# Altium footprint library B39242B7520P810.PcbLib: 1 footprints
Each footprint in its own frame and in the unit in brackets; x right, y up, seen from the top. Pads: shape width x height; smd on the part's side, far side on the other; paste and mask are expansions set on the pad; w line width, h text height; cw(c..) or ccw(c..) is an arc to the next point about the centre after c.
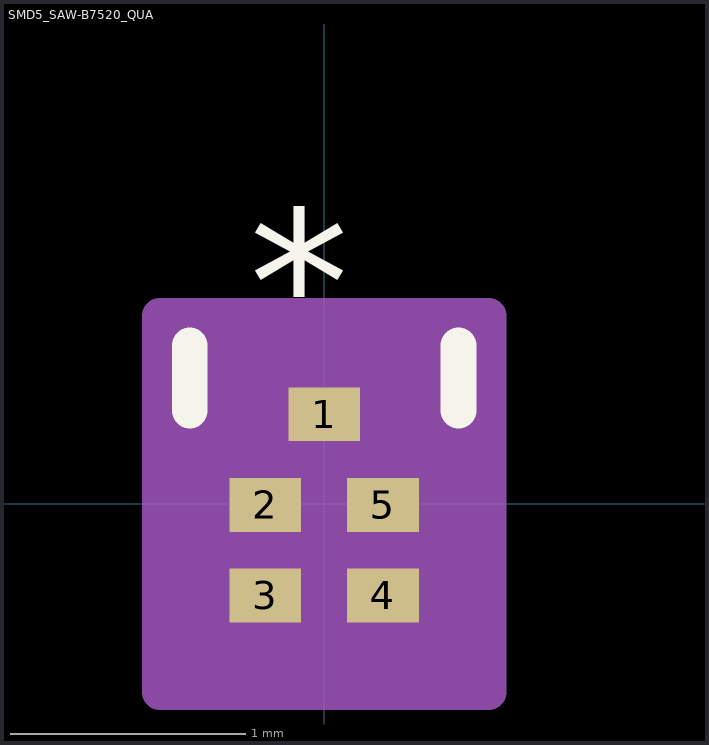
[diagram p0: the footprint, top view; thin cyan lines are the x and y axes]

## SMD5_SAW-B7520_QUA [mil]
pads (5):
  rect 12x9 smd paste-0.54 mask+0: 1(0,15) 2(-9.84,-0.15) 3(-9.84,-15.31) 4(9.84,-15.31) 5(9.84,-0.15)
Top Overlay:
  lines w6: -22.5,15.63 -22.5,26.5 ; 22.5,15.63 22.5,26.5
  text "*" at -12.5,25 h50
Bottom Overlay:
  text "*" at -12.5,25 h50
Mechanical 13:
  lines w1: -17.5,-21.5 -17.5,21.5 17.5,21.5 17.5,-21.5 -17.5,-21.5
  text "*" at -12.5,25 h50
Mechanical 15:
  region: 27.5,31.5 -27.5,31.5 -27.5,-31.5 27.5,-31.5
  lines w6: -27.5,-31.5 27.5,-31.5 27.5,31.5 -27.5,31.5 -27.5,-31.5